# Altium schematic symbol library CONN-SPE-METRAL4000_Receptacle.SchLib: 1 symbol
Pins are listed as number, name and electrical type; pins without a type are passive.

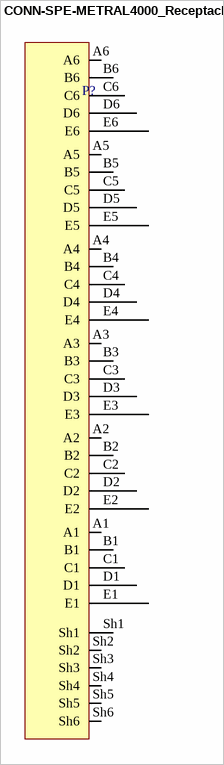
[diagram p0: symbol CONN-SPE-METRAL4000_Receptacle]

## CONN-SPE-METRAL4000_Receptacle
designator P?  (value not drawn)
pins: A1, A2, A3, A4, A5, A6, B1, B2, B3, B4, B5, B6, C1, C2, C3, C4, C5, C6, D1, D2, D3, D4, D5, D6, E1, E2, E3, E4, E5, E6, Sh1, Sh2, Sh3, Sh4, Sh5, Sh6